# EAGLE library part AT24C512B (library selfmade)
Atmel AT24C512B Source: doc5297.pdf
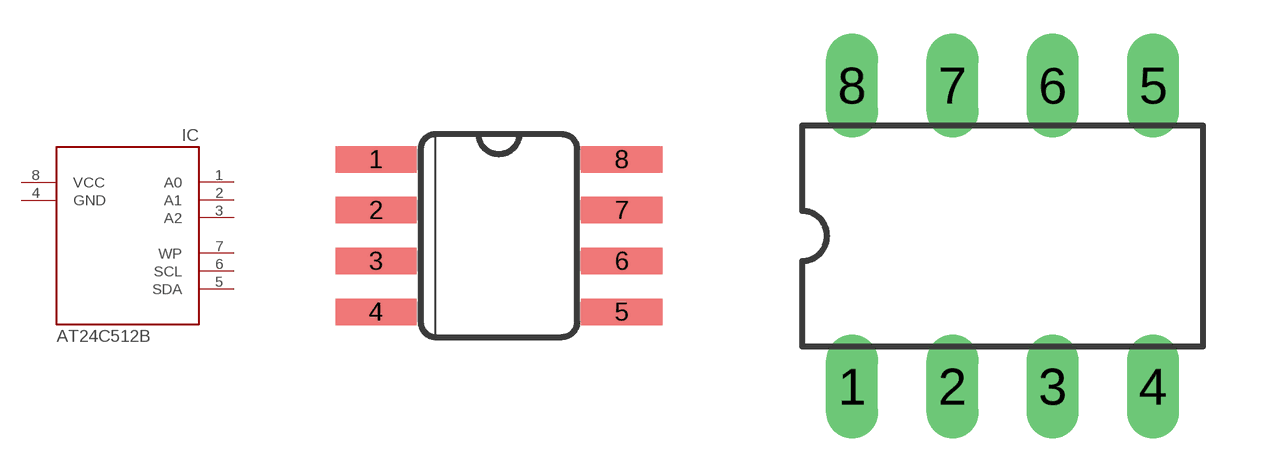
[diagram p13: symbol with the pads of 8-SO; footprints 8-SO, DIL08]

Designator prefix IC

## AT24C512BSMD  [8-SO]
1  A0  in
2  A1  in
3  A2  in
4  GND  sup
5  SDA
6  SCL  in
7  WP  in
8  VCC  sup

## AT24C512BDIP  [DIL08]
Pads as for 8-SO

## Footprint 8-SO (pad centres in mm)
smd 2.032 x 0.66: 1 -3.073,1.905; 2 -3.073,0.635; 3 -3.073,-0.635; 4 -3.073,-1.905; 5 3.073,-1.905; 6 3.073,-0.635; 7 3.073,0.635; 8 3.073,1.905

## Footprint DIL08 (pad centres in mm)
Dual In Line
drill 0.813 long: 1 -3.81,-3.81; 2 -1.27,-3.81; 3 1.27,-3.81; 4 3.81,-3.81; 5 3.81,3.81; 6 1.27,3.81; 7 -1.27,3.81; 8 -3.81,3.81